# EAGLE library part ADS7834-BOB (library CEDT_JANUARY_2015_v6)
ADS7834-BOB Part to add ADS7843 as a BOB Can also support other SOP-8 Package devices
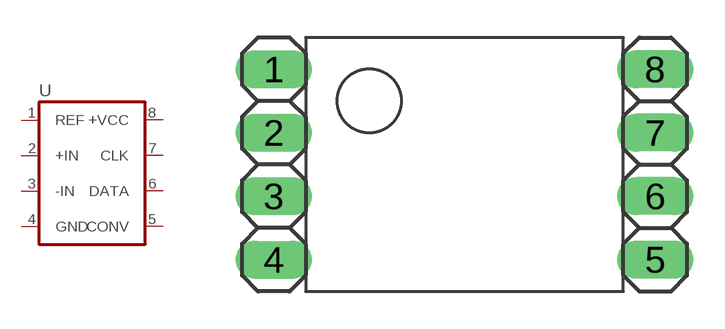
[diagram p69: symbol with the pads of SOP-8-BOB; footprint SOP-8-BOB]

Designator prefix -

## ADS7834-BOB  [SOP-8-BOB]
1  REF  pas
2  +IN  pas
3  -IN  pas
4  GND  pas
5  CONV  pas
6  DATA  pas
7  CLK  pas
8  +VCC  pas

## Footprint SOP-8-BOB (pad centres in mm)
drill 1.016 long: 1 -7.62,3.81; 2 -7.62,1.27; 3 -7.62,-1.27; 4 -7.62,-3.81; 5 7.62,-3.81; 6 7.62,-1.27; 7 7.62,1.27; 8 7.62,3.81